# Altium footprint library standard-case.PcbLib: 36 footprints (part 1 of 3)
Each footprint in its own frame and in the unit in brackets; x right, y up, seen from the top. Pads: shape width x height; smd on the part's side, far side on the other; paste and mask are expansions set on the pad; w line width, h text height; cw(c..) or ccw(c..) is an arc to the next point about the centre after c.
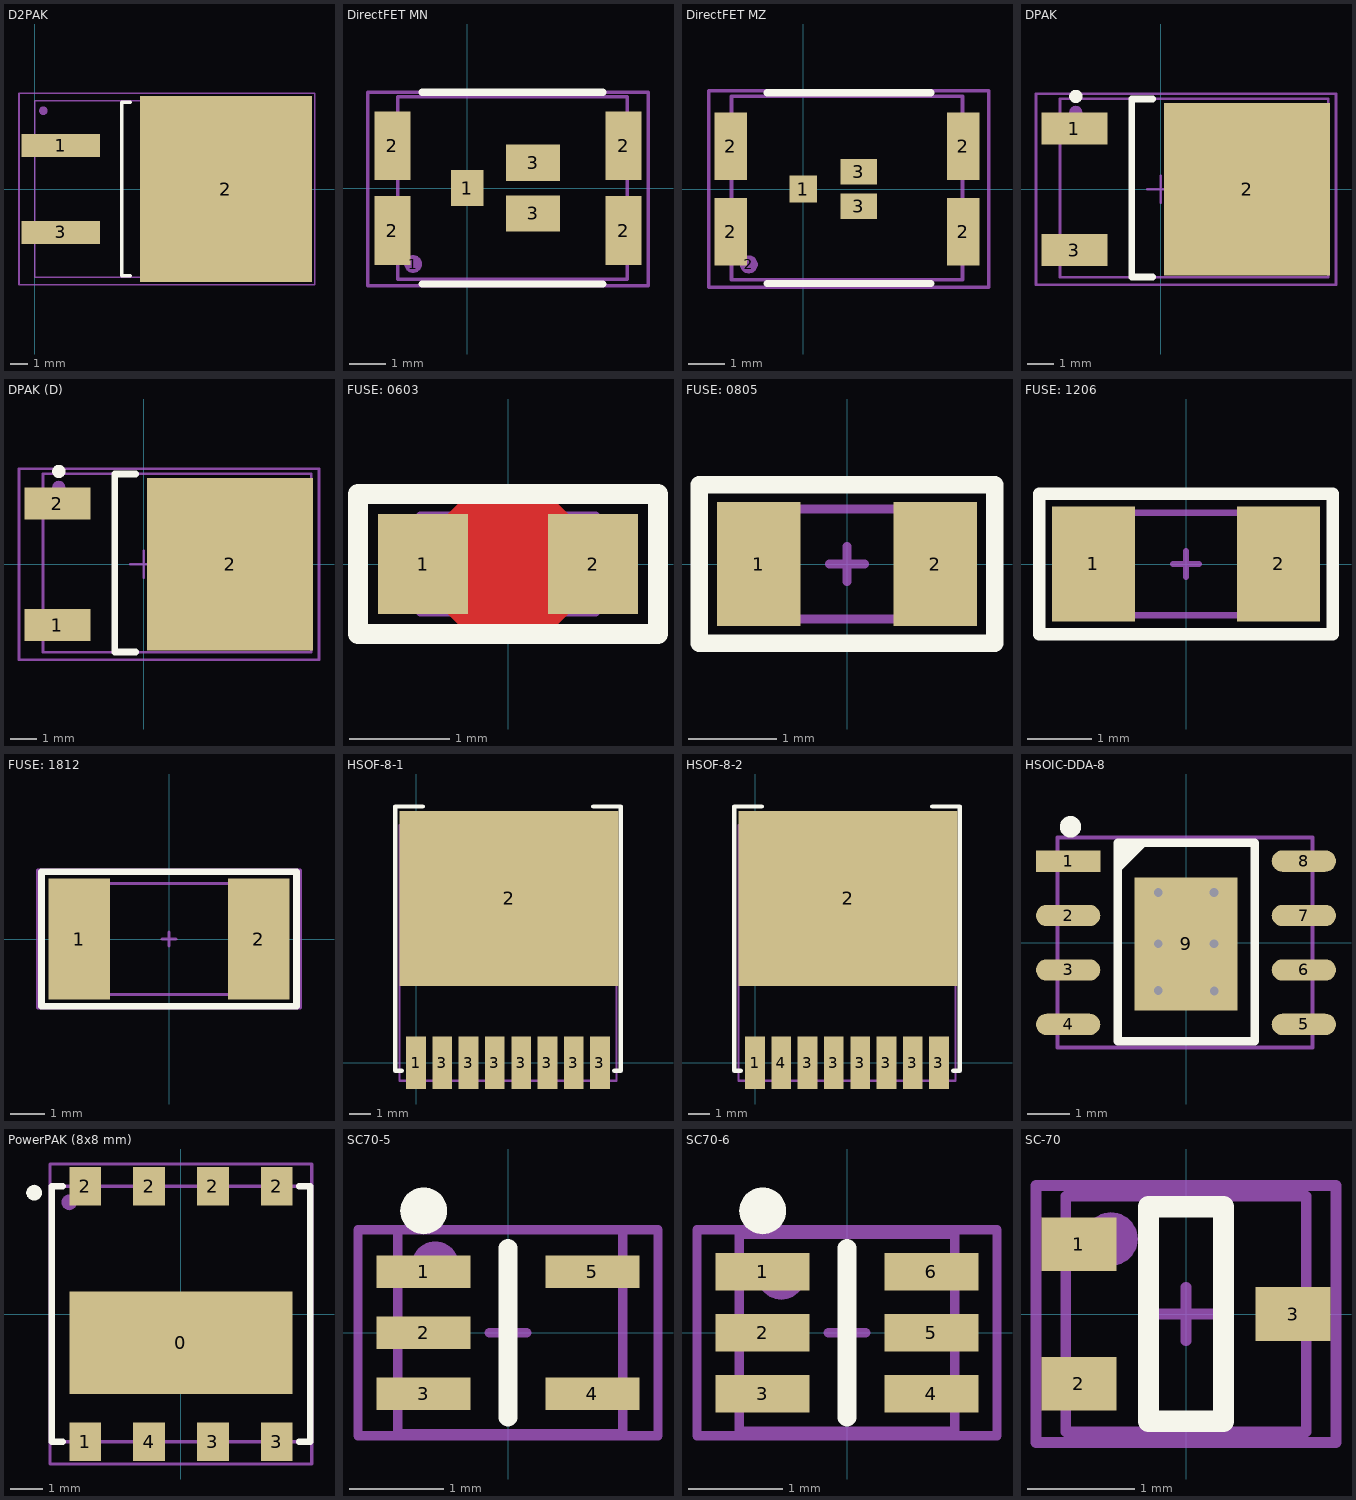
[diagram p0: the footprints below, top view; thin cyan lines are the x and y axes]

## D2PAK [mm]
height 2.38
pads (4):
  rect 4.5x1.3 smd: 1(1.5,2.5) 3(1.5,-2.5)
  rect 9.9x10.7 smd: 2(11,0)
  round 0.5 on Mech1: ""(0.5,4.5)
Top Overlay:
  lines w0.2: 5.5,-5 5,-5 5,5 5.5,5
Mechanical 1:
  lines w0.1: 0,-5.08 0,5.08 15.264,5.08 15.264,-5.08 0,-5.08
Mechanical 15:
  lines w0.1: -0.9,-5.5 -0.9,5.5 16.1,5.5 16.1,-5.5 -0.9,-5.5
3D body "User Library-DPAK.STEP": height 4.88, standoff -0.13, extent 0,-5.08 15.264,5.08

## DirectFET MN [mm]
pads (8):
  round 0.5 on Mech1: 1(-1.5,-2.1)
  rect 0.9x1 smd: 1(0,0)
  rect 1x1.9 smd: 2(-2.075,-1.175) 2(-2.075,1.175) 2(4.325,-1.175) 2(4.325,1.175)
  rect 1.5x1 smd: 3(1.82,-0.7) 3(1.82,0.7)
Top Overlay:
  lines w0.2: -1.25,-2.65 3.75,-2.65 ; -1.25,2.65 3.75,2.65
Mechanical 1:
  lines w0.1: -1.925,-2.525 4.425,-2.525 4.425,2.525 -1.925,2.525 -1.925,-2.525
Mechanical 15:
  lines w0.1: -2.75,-2.7 5,-2.7 5,-1.5 5,2.65 -2.75,2.65 -2.75,-2.7
3D body "User Library-DirectFET_MX.STEP": height 0.75, standoff 0, extent -1.925,-2.525 4.425,2.525

## DirectFET MZ [mm]
pads (8):
  rect 0.75x0.75 smd: 1(0,0)
  rrect0% 0.9x1.85 smd: 2(-2,-1.175) 2(-2,1.175) 2(4.4,-1.175) 2(4.4,1.175)
  round 0.5 on Mech1: 2(-1.5,-2.075)
  rect 1x0.7 smd: 3(1.525,-0.475) 3(1.525,0.475)
Top Overlay:
  lines w0.2: -1,-2.6 3.5,-2.6 ; -1,2.65 3.5,2.65
Mechanical 1:
  lines w0.1: -1.975,-2.5 4.375,-2.5 4.375,2.55 -1.975,2.55 -1.975,-2.5
Mechanical 15:
  lines w0.1: -2.6,-2.7 -2.6,2.7 5.1,2.7 5.1,-2.7 5,-2.7 -2.6,-2.7
3D body "User Library-DirectFET_MX.STEP": height 0.75, standoff 0, extent -1.975,-2.5 4.375,2.55

## DPAK [mm]
height 2.4
pads (4):
  rect 2.5x1.2 smd: 1(-3.25,2.29) 3(-3.25,-2.29)
  rect 6.25x6.5 smd: 2(3.25,0)
  round 0.5 on Mech1: ""(-3.2,2.9)
Top Overlay:
  circle w0.25: c-3.2,3.5 r0.125
  lines w0.25: -0.3,-3.3 -1.1,-3.3 -1.1,3.4 -0.3,3.4
Mechanical 1:
  lines w0.1: -3.798,-3.317 6.302,-3.317 6.302,3.417 ; -3.798,-3.317 -3.798,-3.317 ; -3.798,-3.317 -3.798,3.417 6.302,3.417 ; 6.302,3.417 6.302,3.417
Mechanical 15:
  lines w0.1: -0.5,0 0.5,0 ; 0,-0.5 0,0.5 ; -4.7,-3.6 -4.7,3.6 6.6,3.6 6.6,-3.6 -4.7,-3.6
3D body "User Library-DPAK_TO-252AA.STEP": height 2.37, standoff -0.03, extent -3.798,-3.317 6.302,3.417

## DPAK (D) [mm]
height 2.4
pads (4):
  rect 2.5x1.2 smd: 1(-3.25,-2.29) 2(-3.25,2.29)
  rect 6.25x6.5 smd: 2(3.25,0)
  round 0.5 on Mech1: ""(-3.2,2.9)
Top Overlay:
  circle w0.25: c-3.2,3.5 r0.125
  lines w0.25: -0.3,-3.3 -1.1,-3.3 -1.1,3.4 -0.3,3.4
Mechanical 1:
  lines w0.1: -3.798,-3.317 -3.798,3.417 6.302,3.417 ; -3.798,-3.317 -3.798,-3.317 ; -3.798,-3.317 6.302,-3.317 6.302,3.417 ; 6.302,3.417 6.302,3.417
Mechanical 15:
  lines w0.1: -0.5,0 0.5,0 ; 0,-0.5 0,0.5 ; -4.7,-3.6 6.6,-3.6 6.6,3.6 -4.7,3.6 -4.7,-3.6
3D body "User Library-DPAK_TO-252AA.STEP": height 2.37, standoff -0.03, extent -3.798,-3.317 6.302,3.417

## FUSE: 0603 [mm]
height 0.55
pads (2):
  rect 0.9x1 smd: 1(-0.85,0) 2(0.85,0)
Top Layer:
  pour cut-out: -0.6,0.5 -0.4,0.7 0.4,0.7 0.6,0.5 0.6,-0.5 0.4,-0.7 -0.4,-0.7 -0.6,-0.5
Top Overlay:
  lines w0.2: -1.5,-0.7 -1.5,0.7 1.5,0.7 1.5,-0.7 -1.5,-0.7
Mechanical 1:
  lines w0.1: -0.875,-0.475 -0.875,0.475 0.875,0.475 0.875,-0.475 -0.875,-0.475
Mechanical 15:
  lines w0.1: -0.2,0 0.2,0 ; 0,-0.2 0,0.2 ; -1.5,-0.7 -1.5,0.7 1.5,0.7 1.5,-0.7 -1.4,-0.7 -1.5,-0.7
3D body "RES 0603 (1608 metric).STEP": height 0.54, standoff -0.01, extent -0.875,-0.475 0.875,0.475

## FUSE: 0805 [mm]
pads (2):
  rect 0.95x1.4 smd: 1(-1,0) 2(1,0)
Top Overlay:
  lines w0.2: -1.675,-0.9 -1.675,0.9 1.675,0.9 1.675,-0.9 -1.675,-0.9
Mechanical 1:
  lines w0.1: -1,-0.625 -1,0.625 1,0.625 1,-0.625 -1,-0.625
Mechanical 15:
  lines w0.1: -0.2,0 0.2,0 ; 0,-0.2 0,0.2 ; -1.7,-0.9 1.7,-0.9 1.7,0.9 -1.7,0.9 -1.7,-0.9
3D body: height 0.5, standoff 0, extent -1,-0.625 1,0.625

## FUSE: 1206 [mm]
height 0.7
pads (2):
  rect 1.3x1.8 smd: 1(-1.45,0) 2(1.45,0)
Top Overlay:
  lines w0.2: -2.3,-1.1 2.3,-1.1 2.3,1.1 -2.3,1.1 -2.3,-1.1
Mechanical 1:
  lines w0.1: -1.6,-0.8 1.6,-0.8 1.6,0.8 -1.6,0.8 -1.6,-0.8
Mechanical 15:
  lines w0.1: -0.2,0 0.2,0 ; 0,-0.2 0,0.2 ; -2.3,-1.1 -2.3,1.1 2.3,1.1 2.3,-1.1 -2.3,-1.1
3D body "User Library-0ZCJ0035FF2G-1.STEP": height 0.51, standoff 0.01, extent -1.7,-0.85 1.7,0.85

## FUSE: 1812 [mm]
height 0.6
pads (2):
  rect 1.78x3.5 smd: 1(-2.6,0) 2(2.6,0)
Top Overlay:
  lines w0.2: -3.7,-1.95 -3.7,1.95 3.7,1.95 3.7,-1.95 -3.7,-1.95
Mechanical 1:
  lines w0.1: -2.41,-1.61 2.41,-1.61 2.41,1.61 -2.41,1.61 -2.41,-1.61
Mechanical 15:
  lines w0.1: -0.2,0 0.2,0 ; 0,-0.2 0,0.2 ; -3.8,-2 -3.7,-2 3.8,-2 3.8,2 -3.8,2 -3.8,-2
3D body "User Library-fuse1812.step": height 1.32, standoff 0, extent -2.41,-1.61 2.41,1.61

## HSOF-8-1 [mm] "8-HSOF"
pads (9):
  rect 0.9x2.4 smd: 1(0,0) 3(1.2,0) 3(2.4,0) 3(3.6,0) 3(4.8,0) 3(6,0) 3(7.2,0) 3(8.4,0)
  rect 10x8 smd: 2(4.25,7.5)
Top Overlay:
  lines w0.2: -0.65,-0.375 -0.95,-0.375 -0.95,11.7 0.3,11.7 ; 8.1,11.7 9.35,11.7 9.35,-0.375 9.05,-0.375
Mechanical 1:
  lines w0.1: -0.75,-0.828 9.15,-0.828 9.15,10.847 -0.75,10.847 -0.75,-0.828
3D body "User Library-PG-HSOF-8-1.STEP": height 2.3, standoff 0, extent -0.75,-0.828 9.15,10.847

## HSOF-8-2 [mm] "8-HSOF"
pads (9):
  rect 0.9x2.4 smd: 1(0,0) 3(2.4,0) 3(3.6,0) 3(4.8,0) 3(6,0) 3(7.2,0) 3(8.4,0) 4(1.2,0)
  rect 10x8 smd: 2(4.25,7.5)
Top Overlay:
  lines w0.2: -0.65,-0.375 -0.95,-0.375 -0.95,11.7 0.3,11.7 ; 8.1,11.7 9.35,11.7 9.35,-0.375 9.05,-0.375
Mechanical 1:
  lines w0.1: -0.75,-0.828 -0.75,10.847 9.15,10.847 9.15,-0.828 -0.75,-0.828
3D body "User Library-PG-HSOF-8-1.STEP": height 2.3, standoff 0, extent -0.75,-0.828 9.15,10.847

## HSOIC-DDA-8 [mm]
pads (15):
  rect 1.5x0.5 smd: 1(-2.75,1.905)
  oval 1.5x0.5 smd: 2(-2.75,0.635) 3(-2.75,-0.635) 4(-2.75,-1.905) 5(2.75,-1.905) 6(2.75,-0.635) 7(2.75,0.635) 8(2.75,1.905)
  rect 2.4x3.1 smd: 9(0.004,-0.026)
  round 0.5 hole 0.203 mask+0.051: ""(-0.646,-1.114) ""(-0.646,-0.026) ""(-0.646,1.174) ""(0.654,-0.026) ""(0.654,1.174) ""(0.658,-1.126)
Top Overlay:
  circle w0.25: c-2.695,2.705 r0.125
  region: -1.595,2.33 -1.595,1.61 -0.875,2.33
  lines w0.2: -1.595,-2.295 -1.595,2.33 1.605,2.33 1.605,-2.295 -1.595,-2.295
Mechanical 1:
  lines w0.1: 2.95,2.455 2.95,-2.445 -3,-2.445 -3,2.455 2.95,2.455 ; 2.95,2.455 2.95,2.455
3D body "DDA0008E.stp": height 1.57, standoff 0, extent -3,-2.445 3,2.455

## PowerPAK (8x8 mm) [mm]
pads (11):
  rect 7x3.2 smd mask+0.075: 0(0,-0.9)
  rect 1x1.2 smd mask+0.075: 1(-3,-4) 2(-3,4) 2(-1,4) 2(1,4) 2(3,4) 3(1,-4) 3(3,-4) 4(-1,-4)
  round 0.5 on Top Overlay mask+0.075: ""(-4.6,3.8)
  round 0.5 on Mech1 mask+0.075: ""(-3.5,3.5)
Top Overlay:
  lines w0.2: -3.7,-4 -4.05,-4 -4.05,4 -3.7,4 ; 3.7,-4 4.05,-4 4.05,4 3.7,4
Mechanical 1:
  lines w0.1: -4,-4 4,-4 4,4 -4,4 -4,-4
Mechanical 15:
  lines w0.1: -0.5,0 0.5,0 ; 0,-0.5 0,0.5 ; -4.1,-4.7 -4.1,4.7 4.1,4.7 4.1,-4.7 -4.1,-4.7
3D body "User Library-PowerPAK_8x8.STEP": height 1, standoff 0, extent -4,-4 4,4

## SC70-5 [mm] "pitch 0.95 mm"
height 1.45
pads (7):
  rect 1x0.35 smd: 1(-0.9,0.65) 2(-0.9,0) 3(-0.9,-0.65) 4(0.9,-0.65) 5(0.9,0.65)
  round 0.5 on Top Overlay: ""(-0.9,1.3)
  round 0.5 on Mech1: ""(-0.775,0.725)
Top Overlay:
  lines w0.2: 0,-0.9 0,0.9
Mechanical 1:
  lines w0.1: -1.175,-1.075 1.225,-1.075 1.225,1.1 -1.175,1.1 -1.175,-1.075
Mechanical 15:
  lines w0.1: -0.2,0 0.2,0 ; 0,-0.2 0,0.2 ; -1.6,-1.1 -1.6,1.1 1.6,1.1 1.6,-1.1 -1.6,-1.1
3D body "User Library-SC70-5-MAX.STEP": height 1.09, standoff -0.01, extent -1.175,-1.1 1.225,1.1

## SC70-6 [mm] "SOT23, 5-Leads, Body 2,90x2,80mm, Pitch 0,95mm, IPC Medium Density"
height 1.45
pads (8):
  rect 1x0.4 smd: 1(-0.9,0.65) 2(-0.9,0) 3(-0.9,-0.65) 4(0.9,-0.65) 5(0.9,0) 6(0.9,0.65)
  round 0.5 on Top Overlay: ""(-0.9,1.3)
  round 0.5 on Mech1: ""(-0.7,0.6)
Top Overlay:
  lines w0.2: 0,-0.9 0,0.9
Mechanical 1:
  lines w0.1: -1.15,-1.05 1.15,-1.05 1.15,1.05 -1.15,1.05 -1.15,-1.05
Mechanical 15:
  lines w0.1: -0.2,0 0.2,0 ; 0,-0.2 0,0.2 ; -1.6,-1.1 -1.6,1.1 1.6,1.1 1.6,-1.1 -1.6,-1.1
3D body "User Library-sot363.STEP": height 1, standoff 0, extent -1.15,-1.05 1.15,1.05

## SC-70 [mm]
pads (4):
  rect 0.7x0.5 smd: 1(-1,0.65) 2(-1,-0.65) 3(1,0)
  round 0.5 on Mech1: ""(-0.7,0.7)
Top Overlay:
  lines w0.2: -0.35,-1 -0.35,1 0.35,1 0.35,-1 -0.35,-1
Mechanical 1:
  lines w0.1: -1.123,-1.1 -1.123,1.1 1.123,1.1 1.123,-1.1 -1.123,-1.1
Mechanical 15:
  lines w0.1: -0.25,0 0.25,0 ; 0,-0.25 0,0.25 ; -1.4,-1.2 1.4,-1.2 1.4,1.2 -1.4,1.2 -1.4,-1.2
3D body "User Library-SOT323 (SC70-3)-1.STEP": height 1.1, standoff 0, extent -1.123,-1.1 1.123,1.1